# Altium schematic symbol library GENERIC_fuse.Schlib: 1 symbol
Pins are listed as number, name and electrical type; pins without a type are passive.

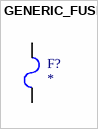
[diagram p0: symbol GENERIC_FUSE]

## GENERIC_FUSE
designator F?
GENERIC_fuse
pins: 1, 2